# EAGLE library part MOTOR_CONTROLLER_BOARD (library BlockDiagramBlocks)
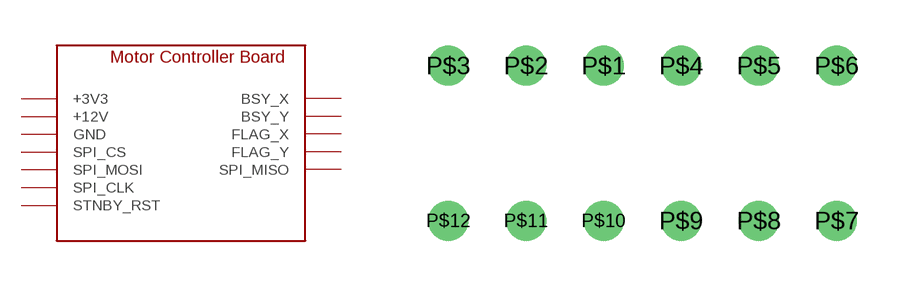
[diagram p1: symbol with the pads of MOTOR_CONTROLLER_BOARD; footprint MOTOR_CONTROLLER_BOARD]

Designator prefix -

## MOTOR_CONTROLLER_BOARD  [MOTOR_CONTROLLER_BOARD]
P$1  +3V3
P$2  +12V
P$3  BSY_X
P$4  BSY_Y
P$5  FLAG_X
P$6  FLAG_Y
P$7  GND
P$8  SPI_CLK
P$9  SPI_CS
P$10  SPI_MISO
P$11  SPI_MOSI
P$12  STNBY_RST

## Footprint MOTOR_CONTROLLER_BOARD (pad centres in mm)
drill 0.8: P$1 0,2.54; P$2 -2.54,2.54; P$3 -5.08,2.54; P$4 2.54,2.54; P$5 5.08,2.54; P$6 7.62,2.54; P$7 7.62,-2.54; P$8 5.08,-2.54; P$9 2.54,-2.54; P$10 0,-2.54; P$11 -2.54,-2.54; P$12 -5.08,-2.54